# Altium schematic symbol library S6125-M2-0.5A.SchLib: 1 symbol
Pins are listed as number, name and electrical type; pins without a type are passive.

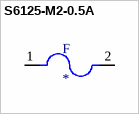
[diagram p0: symbol S6125-M2-0.5A]

## S6125-M2-0.5A
designator F
SMD Fuses ROHS; Manufacturer: SART(Nanjing Sart Tech); Mfr. Part #: S6125-M2-0.5A; LCSC Part #: C845172; Package: SMD; Datasheet: https://datasheet.lcsc.com/lcsc/2201242130_SART-Nanjing-Sart-Tech-S6125-M2-0-5A_C845172.pdf
footprint CAPC6125X25N (Chip Capacitor, 2-Leads, Body 6.10x2.50mm, IPC Medium Density)
pins: 1, 2